# Altium footprint library SO-16n.PcbLib: 1 footprints
Each footprint in its own frame and in the unit in brackets; x right, y up, seen from the top. Pads: shape width x height; smd on the part's side, far side on the other; paste and mask are expansions set on the pad; w line width, h text height; cw(c..) or ccw(c..) is an arc to the next point about the centre after c.
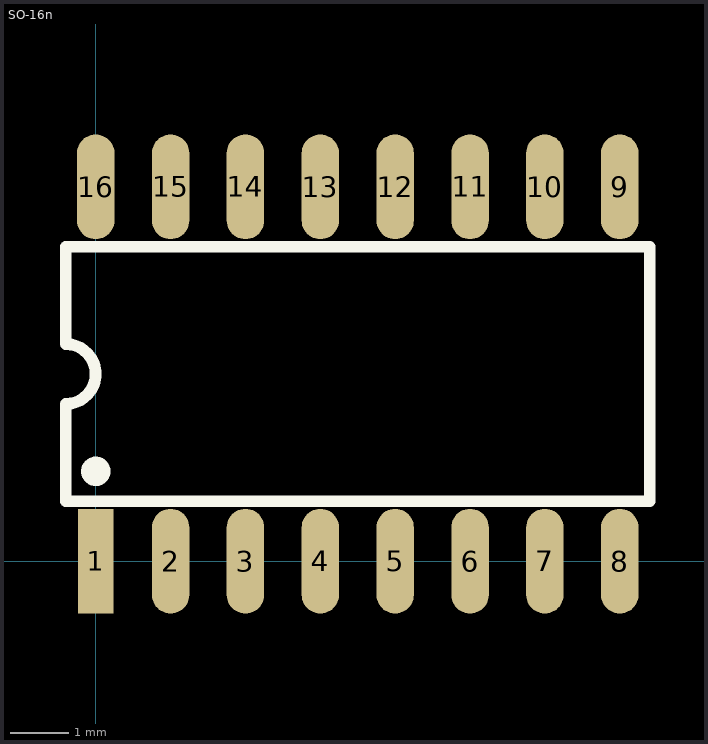
[diagram p0: the footprint, top view; thin cyan lines are the x and y axes]

## SO-16n [mil]
height 50
pads (16):
  rect 23.62x70 smd: 1(0,0)
  oval 25x70 smd: 2(50,0) 3(100,0) 4(150,0) 5(200,0) 6(250,0) 7(300,0) 8(350,0) 9(350,250) 10(300,250) 11(250,250) 12(200,250) 13(150,250) 14(100,250) 15(50,250) 16(0,250)
Top Overlay:
  circle w9.84: c0.08,60 r4.92
  lines w7.87: -20,40 -20,105 ccw(c-20,125) -20,145 -20,210 370,210 370,40 -20,40